# Altium footprint library MICROCHIP MSOP-10 UN.PCBLIB: 1 footprints
Each footprint in its own frame and in the unit in brackets; x right, y up, seen from the top. Pads: shape width x height; smd on the part's side, far side on the other; paste and mask are expansions set on the pad; w line width, h text height; cw(c..) or ccw(c..) is an arc to the next point about the centre after c.
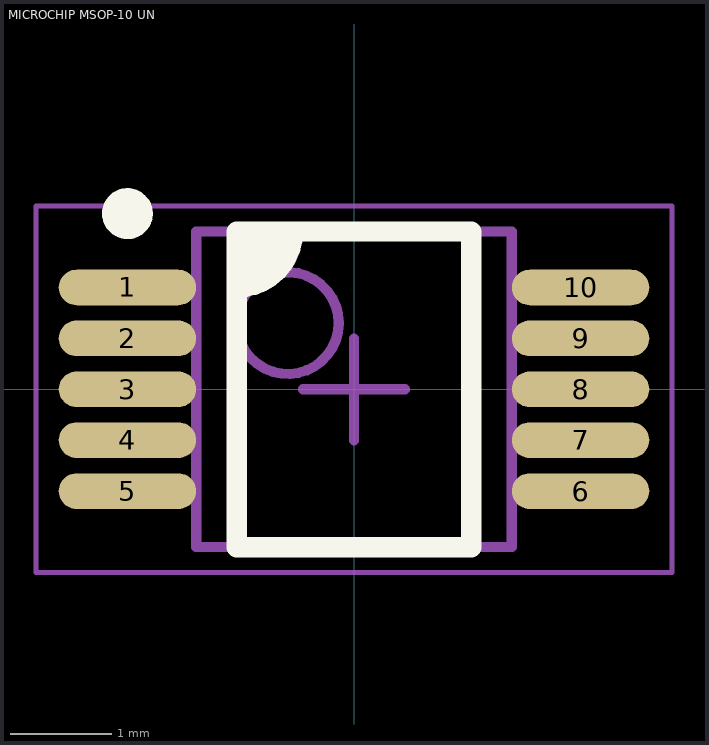
[diagram p0: the footprint, top view; thin cyan lines are the x and y axes]

## MICROCHIP MSOP-10 UN [mm] "MSOP, 10-Leads, Body 3.00x3.00mm, Pitch 0.50mm, IPC Medium Density"
height 1.1
pads (10):
  oval 1.35x0.35 smd: 1(-2.225,1) 2(-2.225,0.5) 3(-2.225,0) 4(-2.225,-0.5) 5(-2.225,-1) 6(2.225,-1) 7(2.225,-0.5) 8(2.225,0) 9(2.225,0.5) 10(2.225,1)
Top Overlay:
  circle w0.25: c-2.225,1.725 r0.125
  region: -1.15,1.55 -0.6,1.55 -0.6,1.3 -0.9,1 -1.15,1
  lines w0.2: -0.6,1.55 cw(c-1.15,1.55) -1.15,1 ; -1.15,1 -1.15,1 ; -1.15,-1.55 -1.15,1.55 1.15,1.55 1.15,-1.55 -1.15,-1.55
Mechanical 13:
  circle w0.1: c-0.65,0.65 r0.5
  lines w0.1: -1.55,-1.55 -1.55,1.55 1.55,1.55 1.55,-1.55 -1.55,-1.55
Mechanical 15:
  lines w0.05: -3.125,-1.8 -3.125,1.8 3.125,1.8 3.125,-1.8 -3.125,-1.8
  lines w0.1: -0.5,0 0.5,0 ; 0,-0.5 0,0.5
3D body "MSOP-10.STEP": height 1.2, standoff 0, extent -2.46,-1.5 2.461,1.5